# Altium schematic symbol library Connector-KF-301.SchLib: 2 symbols
Pins are listed as number, name and electrical type; pins without a type are passive.

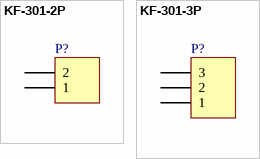
[diagram p0: symbols KF-301-2P to KF-301-3P]

## KF-301-2P
designator P?
Header, kf301,2-Pin; LatestRevisionDate: 17-Jul-2002; LatestRevisionNote: Re-released for DXP Platform.; Publisher: Altium Limited
footprint KF301-5.08_2P
pins: 1, 2

## KF-301-3P
designator P?
Header, kf301,3-Pin; LatestRevisionDate: 17-Jul-2002; LatestRevisionNote: Re-released for DXP Platform.; Publisher: Altium Limited
footprint KF301-5.08_3P
pins: 1, 2, 3